# Altium footprint library 47346-0001.PcbLib: 1 footprints
Each footprint in its own frame and in the unit in brackets; x right, y up, seen from the top. Pads: shape width x height; smd on the part's side, far side on the other; paste and mask are expansions set on the pad; w line width, h text height; cw(c..) or ccw(c..) is an arc to the next point about the centre after c.
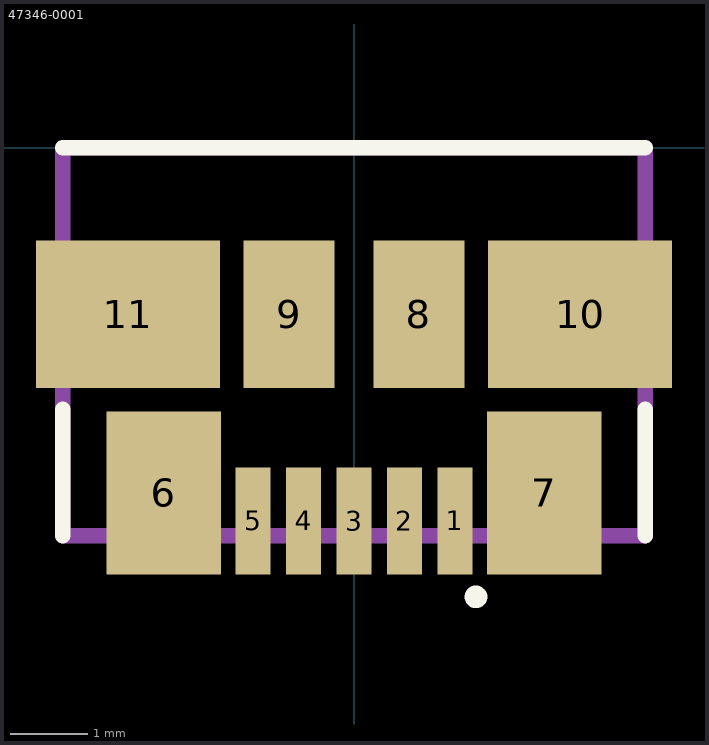
[diagram p0: the footprint, top view; thin cyan lines are the x and y axes]

## 47346-0001 [mm]
pads (11):
  rect 0.45x1.38 smd: 1(1.3,-4.81) 2(0.65,-4.81) 3(0,-4.81) 4(-0.65,-4.81) 5(-1.3,-4.81)
  rect 1.475x2.1 smd: 6(-2.452,-4.45) 7(2.452,-4.45)
  rect 1.175x1.9 smd: 8(0.837,-2.15) 9(-0.837,-2.15)
  rect 2.375x1.9 smd: 10(2.913,-2.15) 11(-2.913,-2.15)
L26-Silk Screen Top (Multiple PADS layers...):
  circle w0.2: c1.572,-5.79 r0.046
  lines w0.2: -3.75,-5 -3.75,-3.373 ; -3.75,0 3.75,0 ; 3.75,-5 3.75,-3.373
L15 (Multiple PADS layers...):
  lines w0.2: -3.75,-5 3.75,-5 3.75,0 -3.75,0 -3.75,-5